# Altium schematic symbol library 691351500002.SchLib: 1 symbol
Pins are listed as number, name and electrical type; pins without a type are passive.

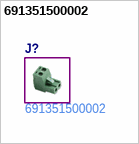
[diagram p0: symbol 691351500002]

## 691351500002
designator J?  Manufacturer Part Number: 691351500002  (hidden comment: *)